# Altium schematic symbol library TO220.SchLib: 2 symbols
Pins are listed as number, name and electrical type; pins without a type are passive.

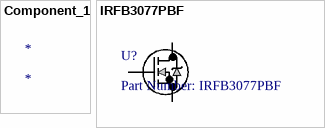
[diagram p0: symbols Component_1 to IRFB3077PBF]

## Component_1
designator *

## IRFB3077PBF
designator U?, comment Part Number: IRFB3077PBF
No Description Available; Vendor: Infineon; Built_By: EMA_UL_Team; Manufacturer_Part_Number: IRFB3077PBF; Copyright: Copyright (C) 2018 Accelerated Designs. All rights reserved; RefDes: RefDes; Type: DEV; Value: Value
footprint PG-TO220-3
pins: 1, 2, 3